# Altium schematic symbol library Indicators.SchLib: 2 symbols
Pins are listed as number, name and electrical type; pins without a type are passive.

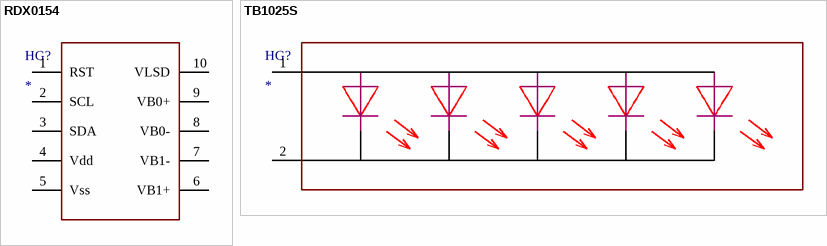
[diagram p0: symbols RDX0154 to TB1025S]

## RDX0154
designator HG?
Part: RDX0154
footprint RDX0154
pins: 1 RST, 2 SCL, 3 SDA, 4 Vdd, 5 Vss, 6 VB1+, 7 VB1-, 8 VB0-, 9 VB0+, 10 VLSD

## TB1025S
designator HG?
Part: TB1025S
footprint TB1025S
pins: 1, 2